# EAGLE library part ADS1118 (library U-ADC)
ADS1118 [TI,ADS1118IDGST] 16BIT 4CH 2DIF SIP 860SPS 10MSOP
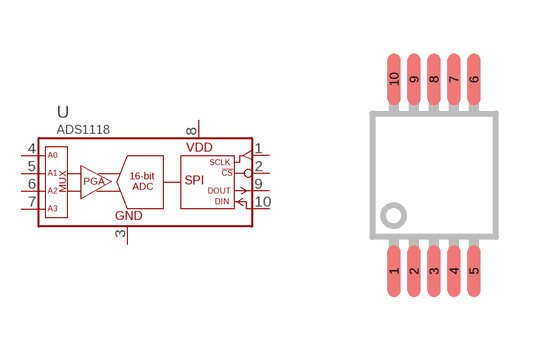
[diagram p0: symbol with the pads of MSOP10; footprint MSOP10]

Designator prefix U

## ADS1118"  [MSOP10]
1  SCLK  in
2  !CS  in
3  GND  pwr
4  AIN0  in
5  AIN1  pas
6  AIN2  pas
7  AIN3  in
8  VDD  pwr
9  DOUT  out
10  DIN  in

## Footprint MSOP10 (pad centres in mm)
MSOP10, 10-Lead, 0.118" Wide, Miniature Small Outline Package WARNING MSOP10 spacing is not same as MSOP8 http://www.diodes.com/_files/zetex_files/pack/MSOP10.pdf http://cds.linear.com/docs/en/packaging/05081664_I_MSE.pdf TI, ADS1118IDGST: 16BIT 4CH 2DIF SIP 860SPS 10MSOP Pad: 0.325 x 1.3mm Spacing: 0.5mm
smd 0.325 x 1.3: 1 -1,-2.4; 2 -0.5,-2.4; 3 0,-2.4; 4 0.5,-2.4; 5 1,-2.4; 6 1,2.4; 7 0.5,2.4; 8 0,2.4; 9 -0.5,2.4; 10 -1,2.4